# Altium footprint library ACT_update.PcbLib: 11 footprints
Each footprint in its own frame and in the unit in brackets; x right, y up, seen from the top. Pads: shape width x height; smd on the part's side, far side on the other; paste and mask are expansions set on the pad; w line width, h text height; cw(c..) or ccw(c..) is an arc to the next point about the centre after c.
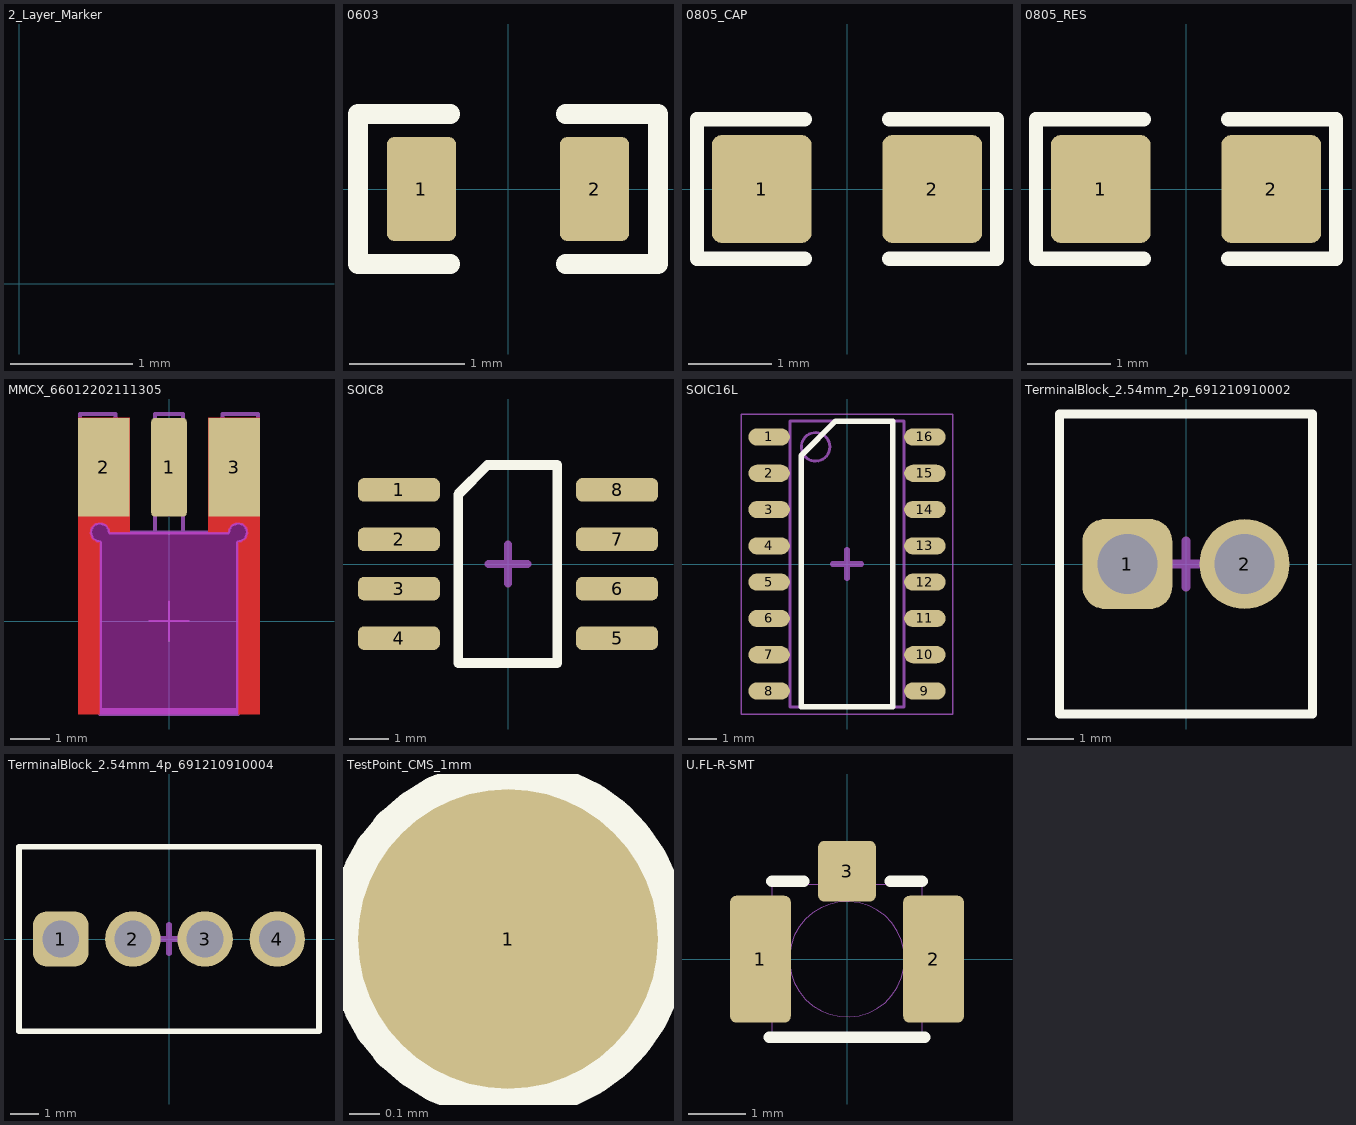
[diagram p0: the footprints below, top view; thin cyan lines are the x and y axes]

## 2_Layer_Marker [mm]
Top Layer:
  text "1" at 0.45,0.35 h0.8
Bottom Layer:
  text "2" at 1.55,0.35 h0.8
Multi-Layer:
  lines w0.218: 1.25,0 1.25,1.55 ; 0,0 0,1.55 2.45,1.55 2.45,0 0,0

## 0603 [mm]
height 0.55
pads (2):
  rrect20% 0.6x0.9 smd: 1(-0.75,0) 2(0.75,0)
Top Overlay:
  lines w0.17: -0.5,-0.65 -1.3,-0.65 -1.3,0.65 -0.5,0.65 ; 0.5,-0.65 1.3,-0.65 1.3,0.65 0.5,0.65
3D body "SW3dPS-0603 SMD Resistor.step": height 0.3, standoff 0, extent -0.864,-0.4 0.736,0.4

## 0805_CAP [mm]
height 1.25
pads (2):
  rrect20% 1.2x1.3 smd: 1(-1.025,0) 2(1.025,0)
Top Overlay:
  lines w0.17: -0.508,-0.838 -1.803,-0.838 -1.803,0.838 -0.508,0.838 ; 0.508,-0.838 1.803,-0.838 1.803,0.838 0.508,0.838
3D body "74654.stp": height 1.43, standoff -0.02, extent -1.1,-0.725 1.1,0.725

## 0805_RES [mm]
height 0.55
pads (2):
  rrect20% 1.2x1.3 smd: 1(-1.025,0) 2(1.025,0)
Top Overlay:
  lines w0.17: -0.508,-0.838 -1.803,-0.838 -1.803,0.838 -0.508,0.838 ; 0.508,-0.838 1.803,-0.838 1.803,0.838 0.508,0.838
3D body "RESC2012X05N.STEP": height 0.45, standoff 0, extent -1,-0.625 1,0.625

## MMCX_66012202111305 [mm] "MMCX PCB End Launch Jack"
height 3.5
pads (3):
  rrect20% 0.9x2.5 smd: 1(0,3.9)
  rect 1.3x2.5 smd paste+0 mask+0.102: 2(-1.65,3.9) 3(1.65,3.9)
Top Layer:
  region: -2.3,-2.35 -2.3,5.15 -1,5.15 -1,2.25 -1.5,2.25 -1.511,2.323 -1.591,2.443 -1.725,2.499 -1.868,2.47 -1.97,2.368 -1.999,2.225 -1.943,2.091 -1.823,2.011 -1.75,2 -1.75,-2.35
  region: 2.3,-2.35 2.3,5.15 1,5.15 1,2.25 1.5,2.25 1.511,2.323 1.591,2.443 1.725,2.499 1.868,2.47 1.97,2.368 1.999,2.225 1.943,2.091 1.823,2.011 1.75,2 1.75,-2.35
Keep-Out Layer:
  board cut-out: -1.75,-2.35 1.75,-2.35 1.75,2 1.826,2 1.952,2.084 2.01,2.224 1.98,2.373 1.873,2.48 1.724,2.51 1.584,2.452 1.5,2.326 1.5,2.25 -1.5,2.25 -1.5,2.326 -1.584,2.452 -1.724,2.51 -1.873,2.48 -1.98,2.373 -2.01,2.224 -1.952,2.084 -1.826,2 -1.75,2
Mechanical 2:
  lines w0.1: -1.75,-2.35 1.75,-2.35 1.75,2 ccw(c1.75,2.25) 1.5,2.25 -1.5,2.25 ccw(c-1.75,2.25) -1.75,2 -1.75,-2.35
  text "PCB Cutout" at -1.5,-0.25 h0.38
Top 3D Body:
  lines w0.1: 2.25,2.25 2.25,5.25 ; 2.25,2.25 2.25,-2.25 -2.25,-2.25 -2.25,2.25 -2.25,5.25 -1.35,5.25 -1.35,2.25 -0.35,2.25 -0.35,5.25 0.35,5.25 0.35,2.25 1.35,2.25 1.35,5.25 2.25,5.25 ; 2.25,2.25 2.25,5.25
Top Courtyard:
  lines w0.05: -0.5,0 0.5,0 ; 0,-0.5 0,0.5
Top Component Outline:
  lines w0.1: 2.25,2.25 2.25,5.25 ; 2.25,2.25 2.25,-2.25 -2.25,-2.25 -2.25,2.25 -2.25,5.25 -1.35,5.25 -1.35,2.25 -0.35,2.25 -0.35,5.25 0.35,5.25 0.35,2.25 1.35,2.25 1.35,5.25 2.25,5.25 ; 2.25,2.25 2.25,5.25
3D body "66012202111305.stp": height 2.1, standoff -1.4, extent -2.25,-2.25 2.25,5.25

## SOIC8 [mm]
pads (8):
  rrect50% 2.1x0.6 smd: 1(-2.8,1.905) 2(-2.8,0.635) 3(-2.8,-0.635) 4(-2.8,-1.905) 5(2.8,-1.905) 6(2.8,-0.635) 7(2.8,0.635) 8(2.8,1.905)
Top Overlay:
  lines w0.254: -1.276,-2.54 -1.276,1.789 -0.525,2.54 1.264,2.54 1.264,-2.54 -1.276,-2.54
Mechanical 15:
  lines w0.2: -0.5,0 0.5,0 ; 0,-0.5 0,0.5
3D body "SW3DPS-SO-8-DEFAULT.step": height 1.45, standoff 0, extent -2.845,-2.44 2.933,2.462

## SOIC16L [mm]
height 1.75
pads (16):
  oval 1.45x0.6 smd: 1(-2.725,4.445) 2(-2.725,3.175) 3(-2.725,1.905) 4(-2.725,0.635) 5(-2.725,-0.635) 6(-2.725,-1.905) 7(-2.725,-3.175) 8(-2.725,-4.445) 9(2.725,-4.445) 10(2.725,-3.175) 11(2.725,-1.905) 12(2.725,-0.635) 13(2.725,0.635) 14(2.725,1.905) 15(2.725,3.175) 16(2.725,4.445)
Top Overlay:
  lines w0.2: -1.6,-5 -1.6,3.8 -0.4,5 1.6,5 1.6,-5 -1.6,-5
Mechanical 13:
  circle w0.1: c-1.1,4.1 r0.5
  lines w0.1: -2,-5 -2,5 2,5 2,-5 -2,-5
Mechanical 15:
  lines w0.05: -3.7,-5.25 -3.7,5.25 3.7,5.25 3.7,-5.25 -3.7,-5.25
  lines w0.2: -0.5,0 0.5,0 ; 0,-0.5 0,0.5
3D body "SOIC16L.step": height 1.75, standoff 0, extent -3,-5 3,5

## TerminalBlock_2.54mm_2p_691210910002 [mm] "2,54mm - modular - green - Horizontal wire entry - Cage clamp - 0,8mm2 wires - 02p"
height 8.5
pads (2):
  rrect50% 1.95x1.95 hole 1.3: 1(-1.27,0)
  round 1.95 hole 1.3: 2(1.27,0)
Top Overlay:
  lines w0.2: -2.74,-3.25 2.74,-3.25 2.74,3.25 -2.74,3.25 -2.74,-3.25
Top 3D Body:
  lines w0.1: -2.74,-3.25 2.74,-3.25 2.74,3.25 -2.74,3.25 -2.74,-3.25
Mechanical 15:
  lines w0.2: -0.5,0 0.5,0 ; 0,-0.5 0,0.5
Top Component Outline:
  lines w0.1: -2.74,-3.25 -2.74,3.25 2.74,3.25 2.74,-3.25 -2.74,-3.25
3D body "691210910002.stp": height 8.55, standoff -3.45, extent -2.74,-3.25 2.74,3.25

## TerminalBlock_2.54mm_4p_691210910004 [mm] "2,54mm - modular - green - Horizontal wire entry - Cage clamp - 0,8mm2 wires - 04p"
height 8.5
pads (4):
  rrect50% 1.95x1.95 hole 1.3: 1(-3.81,0)
  round 1.95 hole 1.3: 2(-1.27,0) 3(1.27,0) 4(3.81,0)
Top Overlay:
  lines w0.2: -5.28,-3.25 -5.28,3.25 5.28,3.25 5.28,-3.25 -5.28,-3.25
Top 3D Body:
  lines w0.1: -5.28,-3.25 -5.28,3.25 5.28,3.25 5.28,-3.25 -5.28,-3.25
Mechanical 15:
  lines w0.2: -0.5,0 0.5,0 ; 0,-0.5 0,0.5
Top Component Outline:
  lines w0.1: -5.28,-3.25 5.28,-3.25 5.28,3.25 -5.28,3.25 -5.28,-3.25
3D body "691210910004.stp": height 8.55, standoff -3.45, extent -5.28,-3.25 5.28,3.25

## TestPoint_CMS_1mm [mm]
pads (1):
  round 1 smd paste-2 mask-0.1: 1(0,0)
Top Overlay:
  circle w0.2: c0,0 r0.5
Mechanical 15:
  lines w0.2: -0.5,0 0.5,0 ; 0,-0.5 0,0.5
3D body: height 0, standoff 0, extent -0.486,-0.498 0.51,0.5

## U.FL-R-SMT [mm]
pads (3):
  rrect20% 1.05x2.2 smd: 1(-1.5,0) 2(1.5,0)
  rrect20% 1x1.05 smd: 3(0,1.525)
Top Overlay:
  lines w0.2: -1.35,-1.35 1.35,-1.35 ; -1.3,1.35 -0.75,1.35 ; 0.75,1.35 1.3,1.35
Mechanical 13:
  circle w0.01: c0,0 r1
  lines w0.01: -1.3,-1.3 1.3,-1.3 1.3,1.3 -1.3,1.3 -1.3,-1.3
3D body: height 2, standoff 0, extent -0.999,-0.999 0.999,0.999
3D body: height 0.35, standoff 0, extent -1.299,-1.299 1.299,1.299